# EAGLE library part OS202013MT8QN1 (library OS202013MT8QN1)
SWITCH SLIDE DPDT 300MA 30V Source: Datasheet <https://www.ckswitches.com/media/1428/os.pdf>
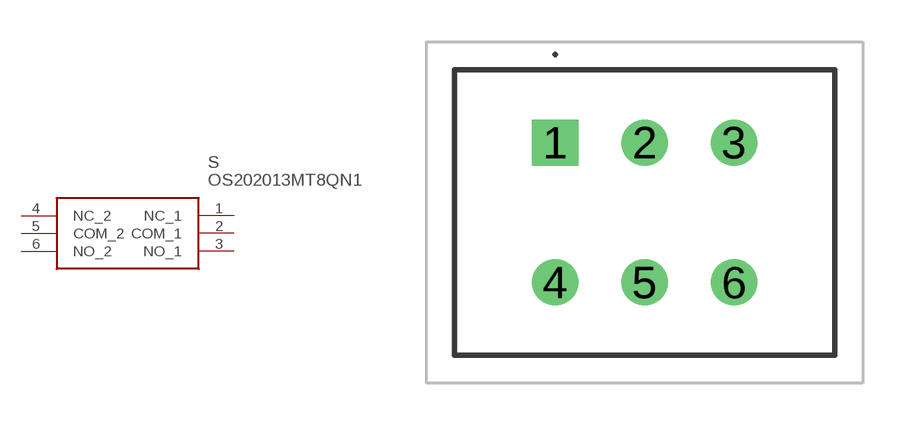
[diagram p0: symbol with the pads of OS202013MT8QN1; footprint OS202013MT8QN1]

Designator prefix S

## OS202013MT8QN1 (Arrow_Part_Number: OS202013MT8QN1; Arrow_Price-Stock: https://www.arrow.com/en/products/os202013mt8qn1/ck?region=europe; Description: SWITCH SLIDE DPDT 300MA 30V; Height: 11mm; Manufacturer_Name: C & K COMPONENTS; Manufacturer_Part_Number: OS202013MT8QN1; Mouser_Part_Number: 611-OS202013MT8QN1; Mouser_Price-Stock: https://www.mouser.co.uk/ProductDetail/CK/OS202013MT8QN1?qs=WtljUlYws5RhlgqE4KzYAw%3D%3D)  [OS202013MT8QN1]
1  NC_1
2  COM_1
3  NO_1
4  NC_2
5  COM_2
6  NO_2

## Footprint OS202013MT8QN1 (pad centres in mm)
OS202013MT8QN1-2
drill 1.1 pad 1.65 square: 1 0,0
drill 1.1 pad 1.65: 2 3.2,0; 3 6.4,0; 4 0,-5; 5 3.2,-5; 6 6.4,-5